# EAGLE library part PIN-HEADER-FEMALE-SMT(1.27MM)2X5 (library gclue)
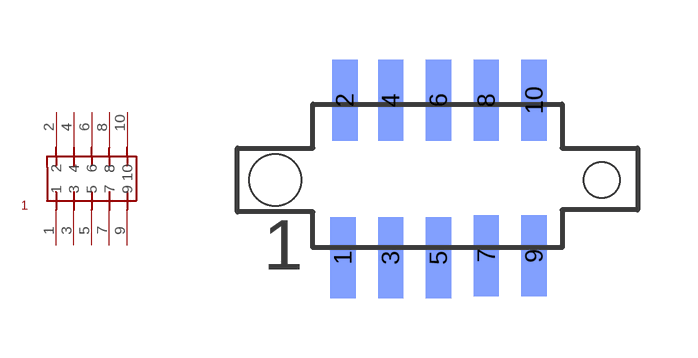
[diagram p4: symbol with the pads of PIN-HEADER-FEMALE-SMT(1.27MM)2X5; footprint PIN-HEADER-FEMALE-SMT(1.27MM)2X5]

Designator prefix -

## PIN-HEADER-FEMALE-SMT(1.27MM)2X5  [PIN-HEADER-FEMALE-SMT(1.27MM)2X5]
1  1
2  2
3  3
4  4
5  5
6  6
7  7
8  8
9  9
10  10

## Footprint PIN-HEADER-FEMALE-SMT(1.27MM)2X5 (pad centres in mm)
smd 0.635 x 2.032 bottom: 1 -2.4,-1.95; 2 -2.35,2; 3 -1.2,-1.95; 4 -1.2,2; 5 0,-1.95; 6 0,2; 7 1.2,-1.9; 8 1.2,2; 9 2.4,-1.9; 10 2.4,2
hole 0.9 at 4.1,0
hole 1.3 at -4.1,0